# Altium schematic symbol library Components - 16.10.22 - 00.34.SchLib: 1 symbol
Pins are listed as number, name and electrical type; pins without a type are passive.

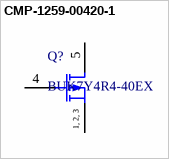
[diagram p0: symbol CMP-1259-00420-1]

## CMP-1259-00420-1
designator Q?, comment BUK7Y4R4-40EX
N-Channel Standard Level MOSFET, 40 V, 100 A, 5-Pin SOT669, Tape and Reel; Manufacturer: NXP Semiconductors; Packing: Tape & Reel; Automotive Qualified: Y; VGSth [typ] (V): 3; ID [max] (A): 100; Qr [typ] (nC): 18; Channel Type: N; VDS [max] (V): 40; IDM [max] (A): 521; PartNumber: BUK7Y4R4-40EX; Code_JEDEC: MO-235; ComponentLink1URL: http://www.nxp.com/; PackageDescription: 4-Pin Plastic Single-ended Surface Mounted Package, Body 4.9 x 3.95 mm, Pitch 1.27 mm; PackageVersion: 13-02-27, 02/2013; ComponentLink2Description: Datasheet; ComponentLink1Description: Manufacturer URL; Mounting Technology: Surface Mount; PackageReference: SOT669; ComponentLink2URL: http://www.nxp.com/documents/data_sheet/BUK7Y4R4-40E.pdf; ComponentLink3Description: Package Specification; ComponentLink3URL: http://www.nxp.com/documents/outline_drawing/sot669_po.pdf
footprint NXP-SOT669_N (DPAK, 4-Leads, Body 5x4.1mm, Pitch 1.27mm, IPC Medium Density)
footprint NXP-SOT669_L (DPAK, 4-Leads, Body 5x4.1mm, Pitch 1.27mm, IPC High Density)
footprint NXP-SOT669_M (DPAK, 4-Leads, Body 5x4.1mm, Pitch 1.27mm, IPC Low Density)
pins: 1 S "source", 2 S "source", 3 S "source", 4 G "gate", 5 D "mounting base; connected to drain"
text: 1, 2, 3